# Altium schematic symbol library Analyzer_SchematicLib.SchLib: 17 symbols
Pins are listed as number, name and electrical type; pins without a type are passive.

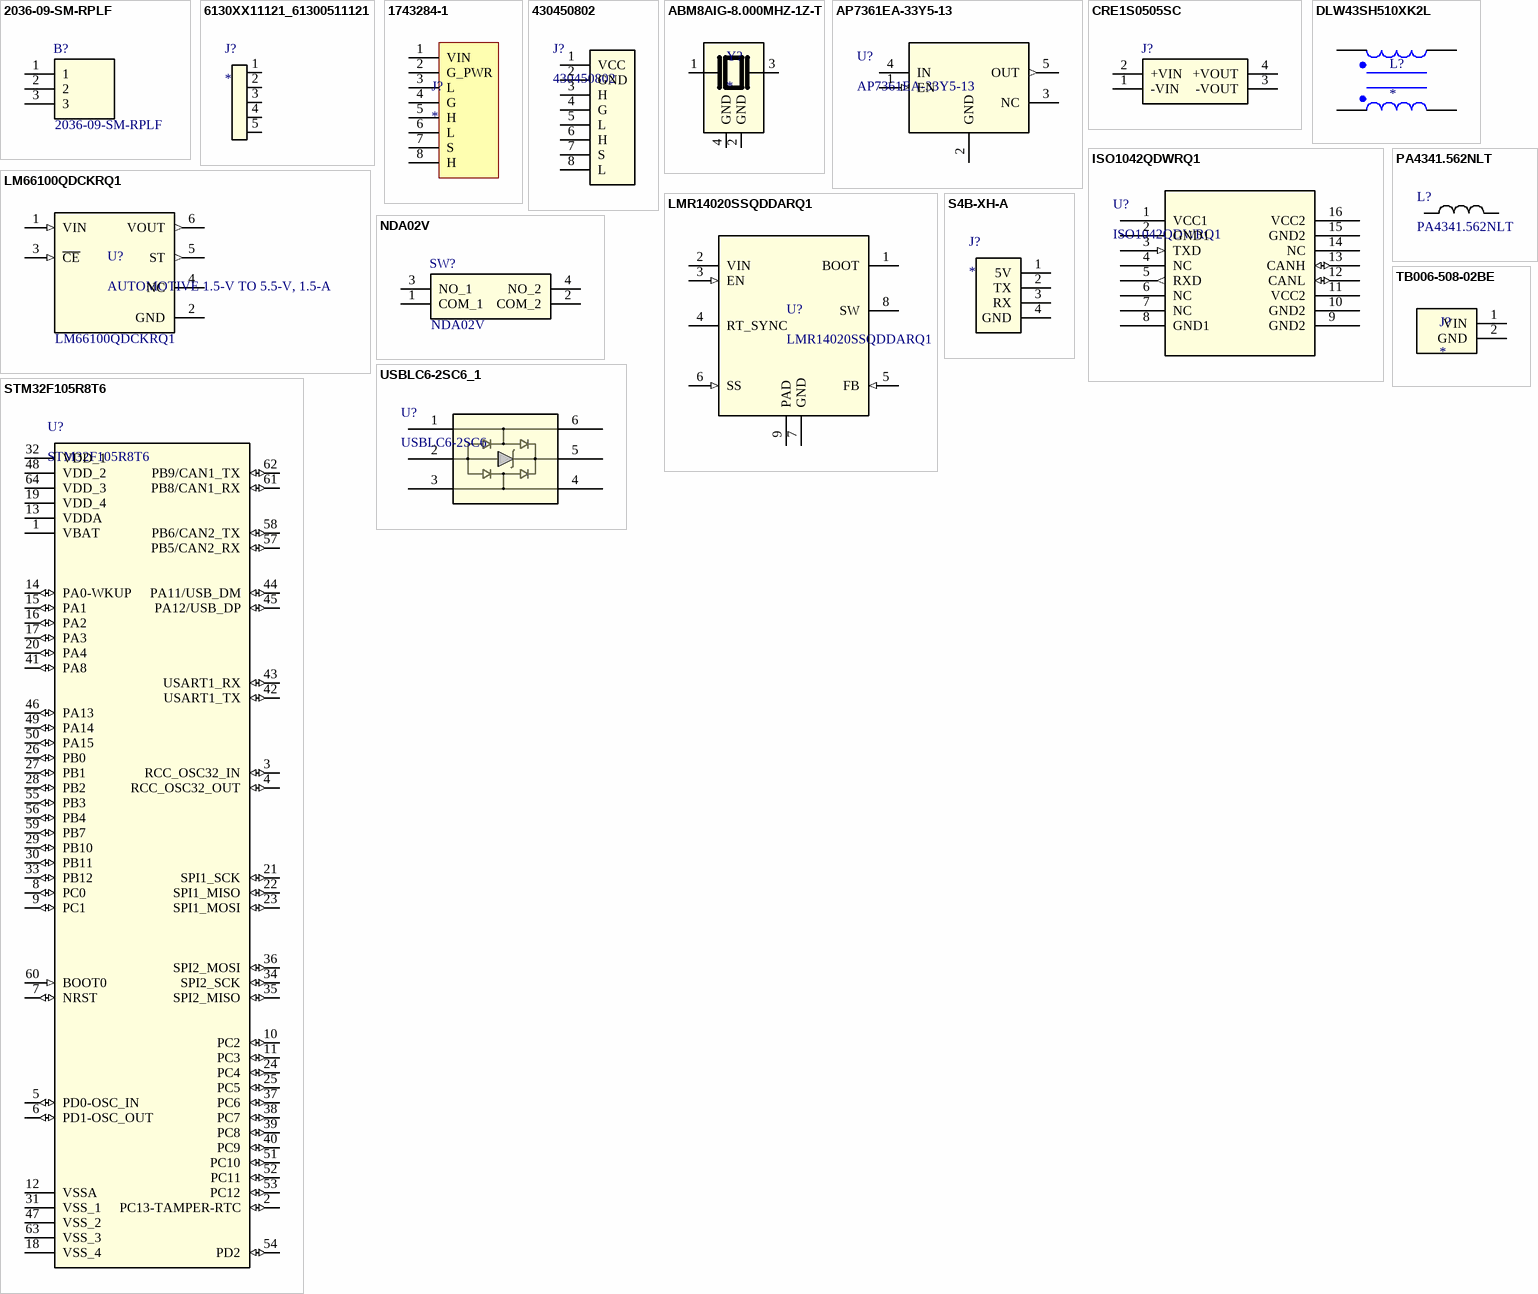
[diagram p0: symbols 2036-09-SM-RPLF to USBLC6-2SC6_1]

## 2036-09-SM-RPLF
designator B?
SURGE ARRESTOR GDT 90V SMT Bourns 2036 Series 90V 10 kA@ 10 Operation, 20 kA@ 1 Operation SMD 3 Electrode Gas Discharge Tube; Geometry.Height: 5.2mm; Manufacturer_Name: Bourns; Manufacturer_Part_Number: 2036-09-SM-RPLF; Mouser Part Number: 652-2036-09-SM-RPLF; Mouser Price/Stock: https://www.mouser.co.uk/ProductDetail/Bourns/2036-09-SM-RPLF?qs=lCOfWMjvbt%252BBO3tBZtiSUQ%3D%3D; Arrow Part Number: 2036-09-SM-RPLF; Arrow Price/Stock: https://www.arrow.com/en/products/2036-09-sm-rplf/bourns?utm_currency=USD&region=nac; Datasheet Link: https://www.bourns.com/PDFs/2036-xx-SM.pdf
footprint 203609SMRPLF
pins: 1, 2, 3

## 6130XX11121_61300511121
designator J?
MF: {'manufacturer': u'W\xfcrth Elektronik'}; MP: 61300511121; Package: None; Price: None; Value: *; Availability: Unavailable
footprint 61300511121
pins: 1, 2, 3, 4, 5

## 1743284-1
designator J?
Conn Shrouded Header HDR 8 POS 2.54mm Solder RA Thru-Hole Loose Piece; MF: TE Connectivity; MP: 1743284-1; SnapEDA_Link: https://www.snapeda.com/parts/1743284-1/TE+Connectivity/view-part/?ref=snap; Package: None; Value: *; EU_RoHS_Compliance: Compliant; Check_prices: https://www.snapeda.com/parts/1743284-1/TE+Connectivity/view-part/?ref=eda
footprint TE_1743284-1
pins: 1 VIN, 2 G_PWR, 3 L, 4 G, 5 H, 6 L, 7 S, 8 H

## 430450802
designator J?
Micro-Fit 3.0 Right-Angle Header, 3.00mm Pitch, Dual Row, 8 Circuits, with Snap-in Plastic Peg PCB Lock, 0.76Âµm Gold Plating, Glow-Wire Capable, Black; Manufacturer_Name: Molex; Copyright: Copyright (C) 2026 Ultra Librarian. All rights reserved.; Manufacturer_Part_Number: 430450802; Datasheet: https://www.molex.com/en-us/products/part-detail-pdf/430450802?display=pdf; Digi-Key_Part_Number_1: WM1822-ND; RefDes: RefDes; Type: Type
footprint CONN_SD-43045-001_08_MOL
pins: 1 VCC, 2 GND, 3 H, 4 G, 5 L, 6 H, 7 S, 8 L

## ABM8AIG-8.000MHZ-1Z-T
designator Y?
8 MHz Â±10ppm Crystal 18pF 500 Ohms 4-SMD, No Lead; MF: Abracon LLC; MP: ABM8AIG-8.000MHZ-1Z-T; SnapEDA_Link: https://www.snapeda.com/parts/ABM8AIG-8.000MHZ-1Z-T/Abracon/view-part/?ref=snap; Package: NON STANDARD Abracon; Value: *; Check_prices: https://www.snapeda.com/parts/ABM8AIG-8.000MHZ-1Z-T/Abracon/view-part/?ref=eda
footprint XTAL_ABM8AIG-8.000MHZ-1Z-T
pins: 1, 2 GND (power), 3 2, 4 GND (power)

## AP7361EA-33Y5-13
designator U?
No Description Available; Manufacturer_Name: Diodes Inc; Type: Power Management; Copyright: Copyright (C) 2026 Ultra Librarian. All rights reserved.; Manufacturer_Part_Number: AP7361EA-33Y5-13; Digi-Key_Part_Number_1: 31-AP7361EA-33Y5-13TR-ND; Digi-Key_Part_Number_2: 31-AP7361EA-33Y5-13CT-ND; Digi-Key_Part_Number_3: 31-AP7361EA-33Y5-13DKR-ND; RefDes: RefDes
footprint SOT89-5_DIO
pins: 1 EN (in), 2 GND (power), 3 NC, 4 IN (power), 5 OUT (out)

## CRE1S0505SC
designator J?  (value not drawn)
Module DC-DC 5VIN 1-OUT 5V 0.2A 1W 4-Pin SIP Module Tube; Manufacturer_Name: Murata Electronics; Geometry.Height: 10.25mm; Manufacturer_Part_Number: CRE1S0505SC; Mouser Part Number: 580-CRE1S0505SC; Mouser Price/Stock: https://www.mouser.co.uk/ProductDetail/Murata-Power-Solutions/CRE1S0505SC?qs=pFP7BvE1PmyBR9paOK5h%2FA%3D%3D; Arrow Part Number: CRE1S0505SC; Arrow Price/Stock: https://www.arrow.com/en/products/cre1s0505sc/murata-power-solutions?utm_currency=USD&region=nac; Datasheet Link: https://www.mouser.com/datasheet/2/281/kdc_cre1-951969.pdf
footprint CRE1S0505SC
pins: 1 -VIN, 2 +VIN, 3 -VOUT, 4 +VOUT

## DLW43SH510XK2L
designator L?
51µH @ 1MHz 2 Line Common Mode Choke Surface Mount 230mA DCR 1Ohm; MP: DLW43SH510XK2L; MF: Murata; Value: *; SnapEDA_Link: https://www.snapeda.com/parts/DLW43SH510XK2L/Murata/view-part/4300308/?ref=snap; Availability: Unavailable; Price: None; Package: 1812 Murata
footprint FIL_DLW43SH510XK2L
pins: 1, 2, 3, 4

## ISO1042QDWRQ1
designator U?
Automotive, isolated CAN transceiver with 70-V bus fault protection & flexible data rate 16-SOIC -40 to 125; Manufacturer_Name: Texas Instruments; Copyright: Copyright (C) 2026 Ultra Librarian. All rights reserved.; Manufacturer_Part_Number: ISO1042QDWRQ1; Datasheet: https://www.ti.com/lit/gpn/iso1042-q1; Digi-Key_Part_Number_1: 296-52278-1-ND; Digi-Key_Part_Number_2: 296-52278-2-ND; Digi-Key_Part_Number_3: 296-52278-6-ND; RefDes: RefDes; Type: Type
footprint DW16_TEX
pins: 1 VCC1 (power), 2 GND1 (power), 3 TXD (in), 4 NC, 5 RXD (out), 6 NC, 7 NC, 8 GND1 (power), 9 GND2 (power), 10 GND2 (power), 11 VCC2 (power), 12 CANL (io), 13 CANH (io), 14 NC, 15 GND2 (power), 16 VCC2 (power)

## LM66100QDCKRQ1
designator U?, comment AUTOMOTIVE 1.5-V TO 5.5-V, 1.5-A  Manufacturer Part Number: LM66100QDCKRQ1
Automotive 1.5-V to 5.5-V, 1.5-A, 0.5-µA IQ ideal diode with integrated FET 6-SC70 -40 to 125; Manufacturer: Texas Instruments; Manufacturer Lifecycle Status: ACTIVE; Number of Channels: 1; Supplier 1: Mouser; RoHS: Compliant; Category: Integrated Circuits (ICs); Stock 1: 6230; Pricing 1: 1=0,44, 10=0,3, 50=0,268, 100=0,231, 1000=0,192, 10000=0,162 (USD); Height: 1.1mm; Length: 2mm; Lifecycle Status: Production; Pins: 6; Thickness: 900µm; Width: 1.25mm; ComponentLink1URL: https://sigma.octopart.com:443/182282881/technical_drawing/Texas-Instruments-LM66100QDCKRQ1.pdf?src-supplier=Texas+Instruments; ComponentLink1Description: https://sigma.octopart.com:443/182282881/technical_drawing/Texas-Instruments-LM66100QDCKRQ1.pdf?src-supplier=Texas+Instruments; ComponentLink2URL: https://octopart.com:443/opatz8j6/c1?t=jdCLViSIeG4YZ9ZuzKCNxeHrtAYQiHtjLnoCJdnTkIENZAXXnoDYtDpVz_daszEZ_omeOgwbrmFBYUi5AkwR7eM8t8iZ72RfnlqvGwU6_jE4yrwgMEwg-2HSYoRDjytZp9KEDB5B7l-qBb_fnzZ_WbvaCPx5IiWZMXl9PVcFNlkcLpwihJYGvxRy4vGQaZq3LCN_wBmFWhmOfA5zAVyTEG5l2uxwd52RgyhD8dKhsgT7_r7ZepCD5zY5saeBipI4fS3N7MZVpLru2ehYOJw6de9vorOe3pZYJsFY7-OBR0BSaU0hfOEKG-rDaEGOFQc-ZQaZyMD6ilOsSvDf3YEp-B7J1W4vq7lfTsucZ8Rly6Y4JHbpczoF_K_FgpkXTM47lS3C0Hxri0uf&src-supplier=Texas+Instruments; ComponentLink2Description: https://octopart.com:443/opatz8j6/c1?t=jdCLViSIeG4YZ9ZuzKCNxeHrtAYQiHtjLnoCJdnTkIENZAXXnoDYtDpVz_daszEZ_omeOgwbrmFBYUi5AkwR7eM8t8iZ72RfnlqvGwU6_jE4yrwgMEwg-2HSYoRDjytZp9KEDB5B7l-qBb_fnzZ_WbvaCPx5IiWZMXl9PVcFNlkcLpwihJYGvxRy4vGQaZq3LCN_wBmFWhmOfA5zAVyTEG5l2uxwd52RgyhD8dKhsgT7_r7ZepCD5zY5saeBipI4fS3N7MZVpLru2ehYOJw6de9vorOe3pZYJsFY7-OBR0BSaU0hfOEKG-rDaEGOFQc-ZQaZyMD6ilOsSvDf3YEp-B7J1W4vq7lfTsucZ8Rly6Y4JHbpczoF_K_FgpkXTM47lS3C0Hxri0uf&src-supplier=Texas+Instruments; ComponentLink3URL: https://sigma.octopart.com:443/178868976/technical_drawing/Texas-Instruments-LM66100QDCKRQ1.pdf?src-supplier=Texas+Instruments; ComponentLink3Description: https://sigma.octopart.com:443/178868976/technical_drawing/Texas-Instruments-LM66100QDCKRQ1.pdf?src-supplier=Texas+Instruments; ComponentLink4URL: https://datasheet.octopart.com:443/LM66100QDCKRQ1-Texas-Instruments-datasheet-164731151.pdf?src-supplier=ODG+(Origin+Data+Global); ComponentLink4Description: https://datasheet.octopart.com:443/LM66100QDCKRQ1-Texas-Instruments-datasheet-164731151.pdf?src-supplier=ODG+(Origin+Data+Global); ComponentLink5URL: http://sigma.octopart.com:80/reach_statement/Texas-Instruments-company-64.pdf?src-supplier=Compliance+Statements; ComponentLink5Description: http://sigma.octopart.com:80/reach_statement/Texas-Instruments-company-64.pdf?src-supplier=Compliance+Statements; ComponentLink6URL: http://sigma.octopart.com:80/conflict_mineral_statement/Texas-Instruments-company-63.pdf?src-supplier=Compliance+Statements; ComponentLink6Description: http://sigma.octopart.com:80/conflict_mineral_statement/Texas-Instruments-company-63.pdf?src-supplier=Compliance+Statements; Supplier Part Number 1: 595-LM66100QDCKRQ1
footprint SOT65P210X110-6N
pins: 1 VIN (in), 2 GND (power), 3 ~{CE} (in), 4 NC, 5 ST (out), 6 VOUT (out)

## LMR14020SSQDDARQ1
designator U?
SIMPLE SWITCHERÂ® Automotive 40-V, 2-A, 2.2-MHz step-down converter with 40-uA IQ 8-SO PowerPAD -40 to 125; Manufacturer_Name: Texas Instruments; PartNumber: LMR14020SQDDARQ1; CompType: IC; TYPE: TYPE; RefDes: RefDes; Copyright: Copyright (C) 2026 Ultra Librarian. All rights reserved.; Manufacturer_Part_Number: LMR14020SSQDDARQ1; Datasheet: https://www.ti.com/lit/gpn/lmr14020-q1; Digi-Key_Part_Number_1: 296-43399-1-ND; Digi-Key_Part_Number_2: 296-43399-2-ND; Digi-Key_Part_Number_3: 296-43399-6-ND; Application_BuildNumber: *; PackageReference: DDA0008E; MountType: SMT; RoHS: Y; Manufacturer: Texas Instruments
footprint DDA0008E_N
pins: 1 BOOT, 2 VIN (power), 3 EN (in), 4 RT_SYNC, 5 FB (in), 6 SS (in), 7 GND (power), 8 SW (power), 9 PAD (power)

## NDA02V
designator SW?
SWITCH DIL RA SPST 50MA 24V TH; Manufacturer_Name: Apem; Geometry.Height: 9.9mm; Manufacturer_Part_Number: NDA02V; Mouser Part Number: 642-NDA02V; Mouser Price/Stock: https://www.mouser.co.uk/ProductDetail/Apem/NDA02V?qs=W0yvOO0ixfEICVFeWba0EQ%3D%3D; Arrow Part Number: *; Arrow Price/Stock: *; Datasheet Link: https://www.apem.com/us/nda-series-174.html
footprint NDA02V
pins: 1 COM_1, 2 COM_2, 3 NO_1, 4 NO_2

## PA4341.562NLT
designator L?
FIXED IND 5.6UH 5A 48 MOHM SMD; Manufacturer_Name: Pulse Electronics Corporation; Copyright: Copyright (C) 2026 Ultra Librarian. All rights reserved.; Manufacturer_Part_Number: PA4341.562NLT
footprint IND_222NLT_PUL
pins: 1, 2

## S4B-XH-A
designator J?
MP: S4B-XH-A; Package: None; Price: None; Value: *; Availability: Unavailable
footprint JST_S4B-XH-A
pins: 1 5V, 2 TX, 3 RX, 4 GND

## STM32F105R8T6
designator U?
Mainstream Connectivity line, ARM Cortex-M3 with 64 Kbytes Flash, 72 MHz CPU, CAN, USB 2.0 OTG; MF: {'manufacturer': u'STMicroelectronics'}; Package: None; Price: None; Value: *; MP: STM32F105R8T6; Availability: Unavailable
footprint QFP50P1200X1200X160-64N
pins: 1 VBAT (power), 2 PC13-TAMPER-RTC (io), 3 RCC_OSC32_IN (io), 4 RCC_OSC32_OUT (io), 5 PD0-OSC_IN (io), 6 PD1-OSC_OUT (io), 7 NRST (io), 8 PC0 (io), 9 PC1 (io), 10 PC2 (io), 11 PC3 (io), 12 VSSA (power), 13 VDDA (power), 14 PA0-WKUP (io), 15 PA1 (io), 16 PA2 (io), 17 PA3 (io), 18 VSS_4 (power), 19 VDD_4 (power), 20 PA4 (io), 21 SPI1_SCK (io), 22 SPI1_MISO (io), 23 SPI1_MOSI (io), 24 PC4 (io), 25 PC5 (io), 26 PB0 (io), 27 PB1 (io), 28 PB2 (io), 29 PB10 (io), 30 PB11 (io), 31 VSS_1 (power), 32 VDD_1 (power), 33 PB12 (io), 34 SPI2_SCK (io), 35 SPI2_MISO (io), 36 SPI2_MOSI (io), 37 PC6 (io), 38 PC7 (io), 39 PC8 (io), 40 PC9 (io), 41 PA8 (io), 42 USART1_TX (io), 43 USART1_RX (io), 44 PA11/USB_DM (io), 45 PA12/USB_DP (io), 46 PA13 (io), 47 VSS_2 (power), 48 VDD_2 (power), 49 PA14 (io), 50 PA15 (io), 51 PC10 (io), 52 PC11 (io), 53 PC12 (io), 54 PD2 (io), 55 PB3 (io), 56 PB4 (io), 57 PB5/CAN2_RX (io), 58 PB6/CAN2_TX (io), 59 PB7 (io), 60 BOOT0 (in), 61 PB8/CAN1_RX (io), 62 PB9/CAN1_TX (io), 63 VSS_3 (power), 64 VDD_3 (power)

## TB006-508-02BE
designator J?
2~24 Poles, Screw Type, Horizontal, 5.08 Pitch, 26~14 (AWG), Terminal Block Connector; MF: Same Sky; MP: TB006-508-02BE; SnapEDA_Link: https://www.snapeda.com/parts/TB006-508-02BE/Same+Sky/view-part/?ref=snap; Package: None; Value: *; Check_prices: https://www.snapeda.com/parts/TB006-508-02BE/Same+Sky/view-part/?ref=eda
footprint CUI_TB006-508-02BE
pins: 1 VIN, 2 GND

## USBLC6-2SC6_1
designator U?, comment USBLC6-2SC6
ESD Protection for USB 2.0 High Speed; Manufacturer_Name: STMicroelectronics; Copyright: Copyright (C) 2025 Ultra Librarian. All rights reserved.; Manufacturer_Part_Number: USBLC6-2SC6; RefDes: RefDes; Type: Type
footprint SOT95P280X145-6N
pins: 1, 2, 3, 4, 5, 6